# Altium footprint library HARWIN THD.PcbLib: 28 footprints (part 2 of 2)
Each footprint in its own frame and in the unit in brackets; x right, y up, seen from the top. Pads: shape width x height; smd on the part's side, far side on the other; paste and mask are expansions set on the pad; w line width, h text height; cw(c..) or ccw(c..) is an arc to the next point about the centre after c.
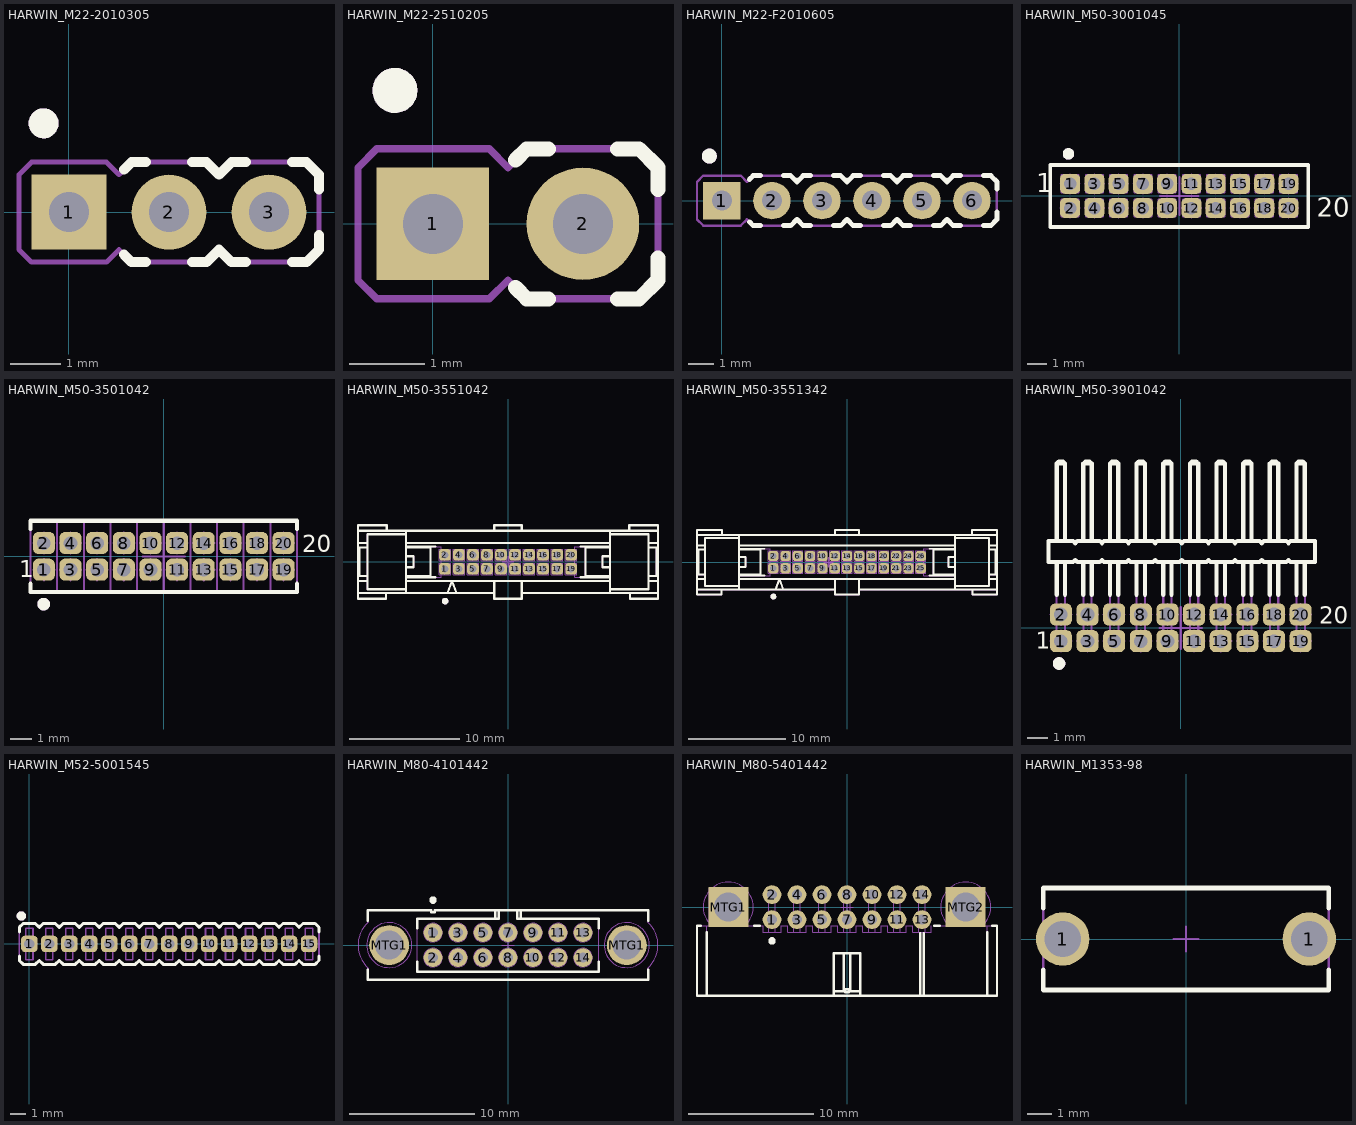
[diagram p1: the footprints below, top view; thin cyan lines are the x and y axes]

## HARWIN_M22-2010305 [mm] "3 Contacts - Pitch 2mm - Single Row Through Mount Straight Header (Post Lead = 3.5mm, Tail Lead 3.4mm, Insulator 1.5mm)"
height 5
pads (3):
  rect 1.5x1.5 hole 0.8: 1(0,0)
  round 1.5 hole 0.8: 2(2,0) 3(4,0)
Top Overlay:
  circle w0.3: c-0.508,1.778 r0.15
  lines w0.2: 1.1,-0.85 1.25,-1 1.542,-1 ; 1.1,0.85 1.25,1 1.542,1 ; 2.458,-1 2.75,-1 3,-0.75 3.25,-1 3.542,-1 ; 2.458,1 2.75,1 3,0.75 3.25,1 3.542,1 ; 4.458,-1 4.75,-1 5,-0.75 5,-0.458 ; 4.458,1 4.75,1 5,0.75 5,0.458
Mechanical 8:
  lines w0.1: -0.5,0 0,0 ; 0,-0.5 0,0 ; 0,0.5 0,0 ; 0.5,0 0,0 ; 1.5,0 2,0 ; 2,-0.5 2,0 ; 2,0.5 2,0 ; 2.5,0 2,0 ; 3.5,0 4,0 ; 4,-0.5 4,0 ; 4,0.5 4,0 ; 4.5,0 4,0
Mechanical 14:
  circle w0.3: c-0.508,1.778 r0.15
  lines w0.1: -0.097,0.097 -0.097,-0.098 ; -0.25,-0.25 -0.097,-0.098 ; -0.25,-0.25 0.25,-0.25 ; -0.25,-0.25 -0.25,0.25 ; -0.25,0.25 -0.097,0.098 0.098,0.098 ; -0.25,0.25 0.25,0.25 ; -0.097,-0.098 0.098,-0.098 ; 0.098,-0.098 0.098,0.098 ; 0.098,-0.098 0.25,-0.25 ; 0.098,0.098 0.25,0.25 ; 0.25,-0.25 0.25,0.25 ; 1.75,-0.25 1.903,-0.098 ; 1.75,-0.25 2.25,-0.25 ; 1.75,-0.25 1.75,0.25 ; 1.75,0.25 1.903,0.098 ; 1.75,0.25 2.25,0.25 ; 1.903,-0.098 2.098,-0.098 ; 1.903,-0.098 1.903,0.097 ; 1.903,0.098 2.098,0.098 ; 2.098,-0.098 2.098,0.098 ; 2.098,-0.098 2.25,-0.25 ; 2.098,0.098 2.25,0.25 ; 2.25,-0.25 2.25,0.25 ; 3.75,-0.25 3.75,0.25 ; 3.75,-0.25 4.25,-0.25 ; 3.75,-0.25 3.903,-0.098 ; 3.75,0.25 4.25,0.25 ; 3.75,0.25 3.903,0.098 ; 3.903,-0.098 3.903,0.097 ; 3.903,-0.098 4.098,-0.098 ; 3.903,0.098 4.098,0.098 ; 4.098,-0.098 4.25,-0.25 ; 4.098,-0.098 4.098,0.098 ; 4.098,0.098 4.25,0.25 ; 4.25,-0.25 4.25,0.25 ; -1,-0.75 -0.75,-1 0.75,-1 1,-0.75 1.25,-1 2.75,-1 3,-0.75 3.25,-1 4.75,-1 5,-0.75 5,0.75 4.75,1 3.25,1 3,0.75 2.75,1 1.25,1 1,0.75 0.75,1 -0.75,1 -1,0.75 -1,-0.75
3D body "HARWIN_M22-2010305.stp": height 5, standoff -3.4, extent -1,-1 5,1

## HARWIN_M22-2510205 [mm] "2 Contacts - Pitch 2mm - Single Row Through Mount Straight Header (Post Lead = 3.5mm, Tail Lead 2.3mm, Insulator 1.5mm)"
height 5
pads (2):
  rect 1.5x1.5 hole 0.8: 1(0,0)
  round 1.5 hole 0.8: 2(2,0)
Top Overlay:
  circle w0.3: c-0.508,1.778 r0.15
  lines w0.2: 1.1,-0.85 1.25,-1 1.542,-1 ; 1.1,0.85 1.25,1 1.542,1 ; 2.458,-1 2.75,-1 3,-0.75 3,-0.458 ; 2.458,1 2.75,1 3,0.75 3,0.458
Mechanical 8:
  lines w0.1: -0.5,0 0,0 ; 0,-0.5 0,0 ; 0,0.5 0,0 ; 0.5,0 0,0 ; 1.5,0 2,0 ; 2,-0.5 2,0 ; 2,0.5 2,0 ; 2.5,0 2,0
Mechanical 14:
  circle w0.3: c-0.508,1.778 r0.15
  lines w0.1: -0.097,0.097 -0.097,-0.098 ; -0.25,-0.25 -0.097,-0.098 ; -0.25,-0.25 0.25,-0.25 ; -0.25,-0.25 -0.25,0.25 ; -0.25,0.25 -0.097,0.098 0.098,0.098 ; -0.25,0.25 0.25,0.25 ; -0.097,-0.098 0.098,-0.098 ; 0.098,-0.098 0.098,0.098 ; 0.098,-0.098 0.25,-0.25 ; 0.098,0.098 0.25,0.25 ; 0.25,-0.25 0.25,0.25 ; 1.75,-0.25 1.903,-0.098 ; 1.75,-0.25 2.25,-0.25 ; 1.75,-0.25 1.75,0.25 ; 1.75,0.25 1.903,0.098 ; 1.75,0.25 2.25,0.25 ; 1.903,-0.098 2.098,-0.098 ; 1.903,-0.098 1.903,0.097 ; 1.903,0.098 2.098,0.098 ; 2.098,-0.098 2.098,0.098 ; 2.098,-0.098 2.25,-0.25 ; 2.098,0.098 2.25,0.25 ; 2.25,-0.25 2.25,0.25 ; -1,-0.75 -0.75,-1 0.75,-1 1,-0.75 1.25,-1 2.75,-1 3,-0.75 3,0.75 2.75,1 1.25,1 1,0.75 0.75,1 -0.75,1 -1,0.75 -1,-0.75
3D body "HARWIN_M22-2510205.stp": height 5, standoff -2.3, extent -1,-1 3,1

## HARWIN_M22-F2010605 [mm] "6 Contacts, Pitch 2mm - SIL Vertical Pin Header"
height 5
pads (6):
  rect 1.5x1.5 hole 0.8: 1(0,0)
  round 1.5 hole 0.8: 2(2,0) 3(4,0) 4(6,0) 5(8,0) 6(10,0)
Top Overlay:
  circle w0.3: c-0.508,1.778 r0.15
  lines w0.2: 1.1,-0.85 1.25,-1 1.542,-1 ; 1.1,0.85 1.25,1 1.542,1 ; 2.458,-1 2.75,-1 3,-0.75 3.25,-1 3.542,-1 ; 2.458,1 2.75,1 3,0.75 3.25,1 3.542,1 ; 4.458,-1 4.75,-1 5,-0.75 5.25,-1 5.542,-1 ; 4.458,1 4.75,1 5,0.75 5.25,1 5.542,1 ; 6.458,-1 6.75,-1 7,-0.75 7.25,-1 7.542,-1 ; 6.458,1 6.75,1 7,0.75 7.25,1 7.542,1 ; 8.458,-1 8.75,-1 9,-0.75 9.25,-1 9.542,-1 ; 8.458,1 8.75,1 9,0.75 9.25,1 9.542,1 ; 10.458,-1 10.75,-1 11,-0.75 11,-0.458 ; 10.458,1 10.75,1 11,0.75 11,0.458
Mechanical 8:
  lines w0.1: -0.5,0 0,0 ; 0,-0.5 0,0 ; 0,0.5 0,0 ; 0.5,0 0,0 ; 1.5,0 2,0 ; 2,-0.5 2,0 ; 2,0.5 2,0 ; 2.5,0 2,0 ; 3.5,0 4,0 ; 4,-0.5 4,0 ; 4,0.5 4,0 ; 4.5,0 4,0 ; 5.5,0 6,0 ; 6,-0.5 6,0 ; 6,0.5 6,0 ; 6.5,0 6,0 ; 7.5,0 8,0 ; 8,-0.5 8,0 ; 8,0.5 8,0 ; 8.5,0 8,0 ; 9.5,0 10,0 ; 10,-0.5 10,0 ; 10,0.5 10,0 ; 10.5,0 10,0
Mechanical 14:
  circle w0.3: c-0.508,1.778 r0.15
  lines w0.1: -1,-0.75 -0.75,-1 0.75,-1 1,-0.75 1.25,-1 2.75,-1 3,-0.75 3.25,-1 4.75,-1 5,-0.75 5.25,-1 6.75,-1 7,-0.75 7.25,-1 8.75,-1 9,-0.75 9.25,-1 10.75,-1 11,-0.75 11,0.75 10.75,1 9.25,1 9,0.75 8.75,1 7.25,1 7,0.75 6.75,1 5.25,1 5,0.75 4.75,1 3.25,1 3,0.75 2.75,1 1.25,1 1,0.75 0.75,1 -0.75,1 -1,0.75 -1,-0.75
3D body "HARWIN_M22-F2010605.stp": height 5, standoff -3.4, extent -1,-1 11,1

## HARWIN_M50-3001045 [mm] "20 Contacts, Pitch 1.27mm - Top Entry, Dual Row Through Mount Socket"
height 4.55
pads (20):
  rrect50% 1.05x1.05 hole 0.65: 1(-5.715,0.635) 2(-5.715,-0.635) 3(-4.445,0.635) 4(-4.445,-0.635) 5(-3.175,0.635) 6(-3.175,-0.635) 7(-1.905,0.635) 8(-1.905,-0.635) 9(-0.635,0.635) 10(-0.635,-0.635) 11(0.635,0.635) 12(0.635,-0.635) 13(1.905,0.635) 14(1.905,-0.635) 15(3.175,0.635) 16(3.175,-0.635) 17(4.445,0.635) 18(4.445,-0.635) 19(5.715,0.635) 20(5.715,-0.635)
Top Overlay:
  circle w0.3: c-5.8,2.2 r0.15
  lines w0.2: -6.75,-1.625 6.75,-1.625 6.75,1.625 -6.75,1.625 -6.75,-1.625
  text "20" at 7.2,-1.1 h1
  text "1" at -7.5,0.2 h1
Mechanical 8:
  lines w0.1: -6.215,-0.635 -5.715,-0.635 ; -6.215,0.635 -5.715,0.635 ; -5.715,-1.135 -5.715,-0.635 ; -5.715,-0.135 -5.715,-0.635 ; -5.715,0.135 -5.715,0.635 ; -5.715,1.135 -5.715,0.635 ; -5.215,-0.635 -5.715,-0.635 ; -5.215,0.635 -5.715,0.635 ; -4.945,-0.635 -4.445,-0.635 ; -4.945,0.635 -4.445,0.635 ; -4.445,-1.135 -4.445,-0.635 ; -4.445,-0.135 -4.445,-0.635 ; -4.445,0.135 -4.445,0.635 ; -4.445,1.135 -4.445,0.635 ; -3.945,-0.635 -4.445,-0.635 ; -3.945,0.635 -4.445,0.635 ; -3.675,-0.635 -3.175,-0.635 ; -3.675,0.635 -3.175,0.635 ; -3.175,-1.135 -3.175,-0.635 ; -3.175,-0.135 -3.175,-0.635 ; -3.175,0.135 -3.175,0.635 ; -3.175,1.135 -3.175,0.635 ; -2.675,-0.635 -3.175,-0.635 ; -2.675,0.635 -3.175,0.635 ; -2.405,-0.635 -1.905,-0.635 ; -2.405,0.635 -1.905,0.635 ; -1.905,-1.135 -1.905,-0.635 ; -1.905,-0.135 -1.905,-0.635 ; -1.905,0.135 -1.905,0.635 ; -1.905,1.135 -1.905,0.635 ; -1.405,-0.635 -1.905,-0.635 ; -1.405,0.635 -1.905,0.635 ; -1.135,-0.635 -0.635,-0.635 ; -1.135,0.635 -0.635,0.635 ; -1,0 0,0 ; -0.635,-1.135 -0.635,-0.635 ; -0.635,-0.135 -0.635,-0.635 ; -0.635,0.135 -0.635,0.635 ; -0.635,1.135 -0.635,0.635 ; -0.135,-0.635 -0.635,-0.635 ; -0.135,0.635 -0.635,0.635 ; 0,-1 0,0 ; 0,1 0,0 ; 0.135,-0.635 0.635,-0.635 ; 0.135,0.635 0.635,0.635 ; 0.635,-1.135 0.635,-0.635 ; 0.635,-0.135 0.635,-0.635 ; 0.635,0.135 0.635,0.635 ; 0.635,1.135 0.635,0.635 ; 1,0 0,0 ; 1.135,-0.635 0.635,-0.635 ; 1.135,0.635 0.635,0.635 ; 1.405,-0.635 1.905,-0.635 ; 1.405,0.635 1.905,0.635 ; 1.905,-1.135 1.905,-0.635 ; 1.905,-0.135 1.905,-0.635 ; 1.905,0.135 1.905,0.635 ; 1.905,1.135 1.905,0.635 ; 2.405,-0.635 1.905,-0.635 ; 2.405,0.635 1.905,0.635 ; 2.675,-0.635 3.175,-0.635 ; 2.675,0.635 3.175,0.635 ; 3.175,-1.135 3.175,-0.635 ; 3.175,-0.135 3.175,-0.635 ; 3.175,0.135 3.175,0.635 ; 3.175,1.135 3.175,0.635 ; 3.675,-0.635 3.175,-0.635 ; 3.675,0.635 3.175,0.635 ; 3.945,-0.635 4.445,-0.635 ; 3.945,0.635 4.445,0.635 ; 4.445,-1.135 4.445,-0.635 ; 4.445,-0.135 4.445,-0.635 ; 4.445,0.135 4.445,0.635 ; 4.445,1.135 4.445,0.635 ; 4.945,-0.635 4.445,-0.635 ; 4.945,0.635 4.445,0.635 ; 5.215,-0.635 5.715,-0.635 ; 5.215,0.635 5.715,0.635 ; 5.715,-1.135 5.715,-0.635 ; 5.715,-0.135 5.715,-0.635 ; 5.715,0.135 5.715,0.635 ; 5.715,1.135 5.715,0.635 ; 6.215,-0.635 5.715,-0.635 ; 6.215,0.635 5.715,0.635
Mechanical 14:
  drawing of 245 lines, arcs and shapes, not listed
  text "20" at 7.2,-1.1 h1
  text "1" at -7.5,0.2 h1
3D body "HARWIN_M50-3001045.stp": height 4.55, standoff -2.4, extent -6.75,-1.625 6.75,1.625

## HARWIN_M50-3501042 [mm] "20 Contacts, Pitch 1.27mm - Horizontal, Dual Row Through Mount Right Angle Straight Header"
height 4.15
pads (20):
  rrect50% 1.05x1.05 hole 0.65: 1(-5.715,-0.635) 2(-5.715,0.635) 3(-4.445,-0.635) 4(-4.445,0.635) 5(-3.175,-0.635) 6(-3.175,0.635) 7(-1.905,-0.635) 8(-1.905,0.635) 9(-0.635,-0.635) 10(-0.635,0.635) 11(0.635,-0.635) 12(0.635,0.635) 13(1.905,-0.635) 14(1.905,0.635) 15(3.175,-0.635) 16(3.175,0.635) 17(4.445,-0.635) 18(4.445,0.635) 19(5.715,-0.635) 20(5.715,0.635)
Top Overlay:
  circle w0.3: c-5.725,-2.275 r0.15
  lines w0.2: -6.35,-1.308 -6.35,-1.7 6.35,-1.7 6.35,-1.308 ; -6.35,1.308 -6.35,1.7 6.35,1.7 6.35,1.308
  text "20" at 6.6,0.2 h0.8
  text "1" at -6.9,-1 h0.8
Mechanical 8:
  lines w0.1: -6.215,-0.635 -5.715,-0.635 ; -6.215,0.635 -5.715,0.635 ; -5.715,-1.135 -5.715,-0.635 ; -5.715,-0.135 -5.715,-0.635 ; -5.715,0.135 -5.715,0.635 ; -5.715,1.135 -5.715,0.635 ; -5.215,-0.635 -5.715,-0.635 ; -5.215,0.635 -5.715,0.635 ; -4.945,-0.635 -4.445,-0.635 ; -4.945,0.635 -4.445,0.635 ; -4.445,-1.135 -4.445,-0.635 ; -4.445,-0.135 -4.445,-0.635 ; -4.445,0.135 -4.445,0.635 ; -4.445,1.135 -4.445,0.635 ; -3.945,-0.635 -4.445,-0.635 ; -3.945,0.635 -4.445,0.635 ; -3.675,-0.635 -3.175,-0.635 ; -3.675,0.635 -3.175,0.635 ; -3.175,-1.135 -3.175,-0.635 ; -3.175,-0.135 -3.175,-0.635 ; -3.175,0.135 -3.175,0.635 ; -3.175,1.135 -3.175,0.635 ; -2.675,-0.635 -3.175,-0.635 ; -2.675,0.635 -3.175,0.635 ; -2.405,-0.635 -1.905,-0.635 ; -2.405,0.635 -1.905,0.635 ; -1.905,-1.135 -1.905,-0.635 ; -1.905,-0.135 -1.905,-0.635 ; -1.905,0.135 -1.905,0.635 ; -1.905,1.135 -1.905,0.635 ; -1.405,-0.635 -1.905,-0.635 ; -1.405,0.635 -1.905,0.635 ; -1.135,-0.635 -0.635,-0.635 ; -1.135,0.635 -0.635,0.635 ; -1,0 0,0 ; -0.635,-1.135 -0.635,-0.635 ; -0.635,-0.135 -0.635,-0.635 ; -0.635,0.135 -0.635,0.635 ; -0.635,1.135 -0.635,0.635 ; -0.135,-0.635 -0.635,-0.635 ; -0.135,0.635 -0.635,0.635 ; 0,-1 0,0 ; 0,1 0,0 ; 0.135,-0.635 0.635,-0.635 ; 0.135,0.635 0.635,0.635 ; 0.635,-1.135 0.635,-0.635 ; 0.635,-0.135 0.635,-0.635 ; 0.635,0.135 0.635,0.635 ; 0.635,1.135 0.635,0.635 ; 1,0 0,0 ; 1.135,-0.635 0.635,-0.635 ; 1.135,0.635 0.635,0.635 ; 1.405,-0.635 1.905,-0.635 ; 1.405,0.635 1.905,0.635 ; 1.905,-1.135 1.905,-0.635 ; 1.905,-0.135 1.905,-0.635 ; 1.905,0.135 1.905,0.635 ; 1.905,1.135 1.905,0.635 ; 2.405,-0.635 1.905,-0.635 ; 2.405,0.635 1.905,0.635 ; 2.675,-0.635 3.175,-0.635 ; 2.675,0.635 3.175,0.635 ; 3.175,-1.135 3.175,-0.635 ; 3.175,-0.135 3.175,-0.635 ; 3.175,0.135 3.175,0.635 ; 3.175,1.135 3.175,0.635 ; 3.675,-0.635 3.175,-0.635 ; 3.675,0.635 3.175,0.635 ; 3.945,-0.635 4.445,-0.635 ; 3.945,0.635 4.445,0.635 ; 4.445,-1.135 4.445,-0.635 ; 4.445,-0.135 4.445,-0.635 ; 4.445,0.135 4.445,0.635 ; 4.445,1.135 4.445,0.635 ; 4.945,-0.635 4.445,-0.635 ; 4.945,0.635 4.445,0.635 ; 5.215,-0.635 5.715,-0.635 ; 5.215,0.635 5.715,0.635 ; 5.715,-1.135 5.715,-0.635 ; 5.715,-0.135 5.715,-0.635 ; 5.715,0.135 5.715,0.635 ; 5.715,1.135 5.715,0.635 ; 6.215,-0.635 5.715,-0.635 ; 6.215,0.635 5.715,0.635
Mechanical 14:
  drawing of 254 lines, arcs and shapes, not listed
  text "20" at 6.6,0.2 h0.8
  text "1" at -6.9,-1 h0.8
3D body "HARWIN_M50-3501042.stp": height 4, standoff -2.3, extent -6.35,-1.7 6.35,1.7

## HARWIN_M50-3551042 [mm] "20 Contacts - Pitch 1.27mm - Vertical Latching, Dual Row Through Mount Straight Header"
height 11.6
pads (20):
  rrect50% 1.05x1.05 hole 0.65: 1(-5.715,-0.635) 2(-5.715,0.635) 3(-4.445,-0.635) 4(-4.445,0.635) 5(-3.175,-0.635) 6(-3.175,0.635) 7(-1.905,-0.635) 8(-1.905,0.635) 9(-0.635,-0.635) 10(-0.635,0.635) 11(0.635,-0.635) 12(0.635,0.635) 13(1.905,-0.635) 14(1.905,0.635) 15(3.175,-0.635) 16(3.175,0.635) 17(4.445,-0.635) 18(4.445,0.635) 19(5.715,-0.635) 20(5.715,0.635)
Top Overlay:
  circle w0.3: c-5.7,-3.55 r0.15
  lines w0.2: -13.59,-2.825 -1.25,-2.825 ; -13.59,2.825 13.59,2.825 ; -13.586,-1.725 -12.742,-1.725 ; -13.586,1.725 -12.742,1.725 ; -12.742,-1.285 -13.451,-1.285 -13.451,1.315 -12.742,1.315 ; -11.05,-2.825 -11.05,-3.345 -13.59,-3.345 -13.59,3.325 -10.99,3.325 -10.99,2.825 ; -9.248,-1.285 -7.015,-1.285 -7.015,1.315 -9.248,1.315 ; -9.248,-0.485 -8.559,-0.485 -8.559,0.515 -9.248,0.515 ; -9.235,-2.825 -9.235,-1.385 -6.59,-1.385 ; -9.235,-1.725 9.235,-1.725 ; -9.235,1.725 9.235,1.725 ; -6.59,1.385 -9.235,1.385 -9.235,2.825 9.235,2.825 9.235,1.385 6.59,1.385 ; -5.478,-2.825 -5.078,-1.725 -4.678,-2.825 ; -1.25,-1.725 -1.25,-3.345 1.25,-3.345 1.25,-1.725 ; -1.25,2.825 -1.25,3.325 1.25,3.325 1.25,2.825 ; 1.25,-2.825 13.59,-2.825 ; 6.59,-1.385 9.235,-1.385 9.235,-2.825 ; 9.248,-1.285 7.015,-1.285 7.015,1.315 9.248,1.315 ; 9.248,-0.485 8.559,-0.485 8.559,0.515 9.248,0.515 ; 10.99,2.825 10.99,3.325 13.59,3.325 13.59,-3.345 11.05,-3.345 11.05,-2.825 ; 12.742,-1.725 13.586,-1.725 ; 12.742,-1.285 13.451,-1.285 13.451,1.315 12.742,1.315 ; 12.742,1.725 13.586,1.725 ; -12.742,-2.47 -9.248,-2.47 -9.248,2.5 -12.742,2.5 -12.742,-2.47 ; 9.248,-2.47 12.742,-2.47 12.742,2.5 9.248,2.5 9.248,-2.47
Mechanical 8:
  drawing of 184 lines, arcs and shapes, not listed
Mechanical 14:
  circle w0.3: c-5.7,-3.55 r0.15
  lines w0.1: -13.59,-2.825 -1.25,-2.825 ; -13.59,2.825 13.59,2.825 ; -13.586,-1.725 -12.742,-1.725 ; -13.586,1.725 -12.742,1.725 ; -12.742,-1.285 -13.451,-1.285 -13.451,1.315 -12.742,1.315 ; -11.05,-2.825 -11.05,-3.345 -13.59,-3.345 -13.59,3.325 -10.99,3.325 -10.99,2.825 ; -9.248,-1.285 -7.015,-1.285 -7.015,1.315 -9.248,1.315 ; -9.248,-0.485 -8.559,-0.485 -8.559,0.515 -9.248,0.515 ; -9.235,-2.825 -9.235,-1.385 -6.04,-1.385 -6.04,1.385 -9.235,1.385 -9.235,2.825 9.235,2.825 9.235,1.385 6.04,1.385 6.04,-1.385 9.235,-1.385 9.235,-2.825 ; -9.235,-1.725 9.235,-1.725 ; -9.235,1.725 9.235,1.725 ; -5.478,-2.825 -5.078,-1.725 -4.678,-2.825 ; -1.25,-1.725 -1.25,-3.345 1.25,-3.345 1.25,-1.725 ; -1.25,2.825 -1.25,3.325 1.25,3.325 1.25,2.825 ; 1.25,-2.825 13.59,-2.825 ; 9.248,-1.285 7.015,-1.285 7.015,1.315 9.248,1.315 ; 9.248,-0.485 8.559,-0.485 8.559,0.515 9.248,0.515 ; 10.99,2.825 10.99,3.325 13.59,3.325 13.59,-3.345 11.05,-3.345 11.05,-2.825 ; 12.742,-1.725 13.586,-1.725 ; 12.742,-1.285 13.451,-1.285 13.451,1.315 12.742,1.315 ; 12.742,1.725 13.586,1.725 ; -12.742,-2.47 -9.248,-2.47 -9.248,2.5 -12.742,2.5 -12.742,-2.47 ; -5.915,-0.835 -5.515,-0.835 -5.515,-0.435 -5.915,-0.435 -5.915,-0.835 ; -5.915,0.435 -5.515,0.435 -5.515,0.835 -5.915,0.835 -5.915,0.435 ; -4.645,-0.835 -4.245,-0.835 -4.245,-0.435 -4.645,-0.435 -4.645,-0.835 ; -4.645,0.435 -4.245,0.435 -4.245,0.835 -4.645,0.835 -4.645,0.435 ; -3.375,-0.835 -2.975,-0.835 -2.975,-0.435 -3.375,-0.435 -3.375,-0.835 ; -3.375,0.435 -2.975,0.435 -2.975,0.835 -3.375,0.835 -3.375,0.435 ; -2.105,-0.835 -1.705,-0.835 -1.705,-0.435 -2.105,-0.435 -2.105,-0.835 ; -2.105,0.435 -1.705,0.435 -1.705,0.835 -2.105,0.835 -2.105,0.435 ; -0.835,-0.835 -0.435,-0.835 -0.435,-0.435 -0.835,-0.435 -0.835,-0.835 ; -0.835,0.435 -0.435,0.435 -0.435,0.835 -0.835,0.835 -0.835,0.435 ; 0.435,-0.835 0.835,-0.835 0.835,-0.435 0.435,-0.435 0.435,-0.835 ; 0.435,0.435 0.835,0.435 0.835,0.835 0.435,0.835 0.435,0.435 ; 1.705,-0.835 2.105,-0.835 2.105,-0.435 1.705,-0.435 1.705,-0.835 ; 1.705,0.435 2.105,0.435 2.105,0.835 1.705,0.835 1.705,0.435 ; 2.975,-0.835 3.375,-0.835 3.375,-0.435 2.975,-0.435 2.975,-0.835 ; 2.975,0.435 3.375,0.435 3.375,0.835 2.975,0.835 2.975,0.435 ; 4.245,-0.835 4.645,-0.835 4.645,-0.435 4.245,-0.435 4.245,-0.835 ; 4.245,0.435 4.645,0.435 4.645,0.835 4.245,0.835 4.245,0.435 ; 5.515,-0.835 5.915,-0.835 5.915,-0.435 5.515,-0.435 5.515,-0.835 ; 5.515,0.435 5.915,0.435 5.915,0.835 5.515,0.835 5.515,0.435 ; 9.248,-2.47 12.742,-2.47 12.742,2.5 9.248,2.5 9.248,-2.47
3D body "HARWIN_M50-3551042.stp": height 11.3, standoff -2.72, extent -13.59,-3.345 13.59,3.325

## HARWIN_M50-3551342 [mm] "26 Contacts - Pitch 1.27mm - Vertical Latching, Dual Row Through Mount Straight Header"
height 11.6
pads (26):
  rrect50% 1.05x1.05 hole 0.65: 1(-7.62,-0.635) 2(-7.62,0.635) 3(-6.35,-0.635) 4(-6.35,0.635) 5(-5.08,-0.635) 6(-5.08,0.635) 7(-3.81,-0.635) 8(-3.81,0.635) 9(-2.54,-0.635) 10(-2.54,0.635) 11(-1.27,-0.635) 12(-1.27,0.635) 13(0,-0.635) 14(0,0.635) 15(1.27,-0.635) 16(1.27,0.635) 17(2.54,-0.635) 18(2.54,0.635) 19(3.81,-0.635) 20(3.81,0.635) 21(5.08,-0.635) 22(5.08,0.635) 23(6.35,-0.635) 24(6.35,0.635) 25(7.62,-0.635) 26(7.62,0.635)
Top Overlay:
  circle w0.3: c-7.605,-3.55 r0.15
  lines w0.2: -15.495,-2.825 -1.25,-2.825 ; -15.495,2.825 15.495,2.825 ; -15.491,-1.725 -14.647,-1.725 ; -15.491,1.725 -14.647,1.725 ; -14.647,-1.285 -15.356,-1.285 -15.356,1.315 -14.647,1.315 ; -12.955,-2.825 -12.955,-3.345 -15.495,-3.345 -15.495,3.325 -12.895,3.325 -12.895,2.825 ; -11.153,-1.285 -8.92,-1.285 -8.92,1.315 -11.153,1.315 ; -11.153,-0.485 -10.464,-0.485 -10.464,0.515 -11.153,0.515 ; -11.14,-2.825 -11.14,-1.385 -8.495,-1.385 ; -11.14,-1.725 11.14,-1.725 ; -11.14,1.725 11.14,1.725 ; -11.14,2.825 -11.14,1.385 -8.495,1.385 ; -9.235,2.825 9.235,2.825 ; -7.383,-2.825 -6.983,-1.725 -6.583,-2.825 ; -1.25,-1.725 -1.25,-3.345 1.25,-3.345 1.25,-1.725 ; -1.25,2.825 -1.25,3.325 1.25,3.325 1.25,2.825 ; 1.25,-2.825 15.495,-2.825 ; 8.495,-1.385 11.14,-1.385 11.14,-2.825 ; 8.495,1.385 11.14,1.385 11.14,2.825 ; 11.153,-1.285 8.92,-1.285 8.92,1.315 11.153,1.315 ; 11.153,-0.485 10.464,-0.485 10.464,0.515 11.153,0.515 ; 12.895,2.825 12.895,3.325 15.495,3.325 15.495,-3.345 12.955,-3.345 12.955,-2.825 ; 14.647,-1.725 15.491,-1.725 ; 14.647,-1.285 15.356,-1.285 15.356,1.315 14.647,1.315 ; 14.647,1.725 15.491,1.725 ; -14.647,-2.47 -14.647,2.5 -11.153,2.5 -11.153,-2.47 -14.647,-2.47 ; 11.153,-2.47 11.153,2.5 14.647,2.5 14.647,-2.47 11.153,-2.47
Mechanical 8:
  drawing of 238 lines, arcs and shapes, not listed
Mechanical 14:
  drawing of 169 lines, arcs and shapes, not listed
3D body "HARWIN_M50-3551342.stp": height 11.3, standoff -2.72, extent -15.495,-3.345 15.495,3.325

## HARWIN_M50-3901042 [mm] "20 Contacts, Pitch 1.27mm - Horizontal, Dual Row Through Mount Right Angle Header"
height 3.41
pads (20):
  rrect50% 1.05x1.05 hole 0.65: 1(-5.715,-0.635) 2(-5.715,0.635) 3(-4.445,-0.635) 4(-4.445,0.635) 5(-3.175,-0.635) 6(-3.175,0.635) 7(-1.905,-0.635) 8(-1.905,0.635) 9(-0.635,-0.635) 10(-0.635,0.635) 11(0.635,-0.635) 12(0.635,0.635) 13(1.905,-0.635) 14(1.905,0.635) 15(3.175,-0.635) 16(3.175,0.635) 17(4.445,-0.635) 18(4.445,0.635) 19(5.715,-0.635) 20(5.715,0.635)
Top Overlay:
  circle w0.3: c-5.8,-1.7 r0.15
  lines w0.2: -5.915,1.575 -5.915,3.135 ; -5.915,4.135 -5.915,7.835 ; -5.515,1.575 -5.515,3.135 ; -5.515,4.135 -5.515,7.835 ; -4.645,1.575 -4.645,3.135 ; -4.645,4.135 -4.645,7.835 ; -4.245,1.575 -4.245,3.135 ; -4.245,4.135 -4.245,7.835 ; -3.375,1.575 -3.375,3.135 ; -3.375,4.135 -3.375,7.835 ; -2.975,1.575 -2.975,3.135 ; -2.975,4.135 -2.975,7.835 ; -2.105,1.575 -2.105,3.135 ; -2.105,4.135 -2.105,7.835 ; -1.705,1.575 -1.705,3.135 ; -1.705,4.135 -1.705,7.835 ; -0.835,1.575 -0.835,3.135 ; -0.835,4.135 -0.835,7.835 ; -0.435,1.575 -0.435,3.135 ; -0.435,4.135 -0.435,7.835 ; 0.435,1.575 0.435,3.135 ; 0.435,4.135 0.435,7.835 ; 0.835,1.575 0.835,3.135 ; 0.835,4.135 0.835,7.835 ; 1.705,1.575 1.705,3.135 ; 1.705,4.135 1.705,7.835 ; 2.105,1.575 2.105,3.135 ; 2.105,4.135 2.105,7.835 ; 2.975,1.575 2.975,3.135 ; 2.975,4.135 2.975,7.835 ; 3.375,1.575 3.375,3.135 ; 3.375,4.135 3.375,7.835 ; 4.245,1.575 4.245,3.135 ; 4.245,4.135 4.245,7.835 ; 4.645,1.575 4.645,3.135 ; 4.645,4.135 4.645,7.835 ; 5.515,1.575 5.515,3.135 ; 5.515,4.135 5.515,7.835 ; 5.915,1.575 5.915,3.135 ; 5.915,4.135 5.915,7.835 ; -6.3,3.135 -6.3,4.135 ; -6.3,3.135 -6.3,4.135 ; -6.3,3.135 -5.13,3.135 -5.03,3.235 -4.93,3.135 -3.86,3.135 -3.76,3.235 -3.66,3.135 -2.59,3.135 -2.49,3.235 -2.39,3.135 -1.32,3.135 -1.22,3.235 -1.12,3.135 -0.05,3.135 0.05,3.235 0.15,3.135 1.22,3.135 1.32,3.235 1.42,3.135 2.49,3.135 2.59,3.235 2.69,3.135 3.76,3.135 3.86,3.235 3.96,3.135 5.03,3.135 5.13,3.235 5.23,3.135 6.4,3.135 6.4,4.135 5.23,4.135 5.13,4.035 5.03,4.135 3.96,4.135 3.86,4.035 3.76,4.135 2.69,4.135 2.59,4.035 2.49,4.135 1.42,4.135 1.32,4.035 1.22,4.135 0.15,4.135 0.05,4.035 -0.05,4.135 -1.12,4.135 -1.22,4.035 -1.32,4.135 -2.39,4.135 -2.49,4.035 -2.59,4.135 -3.66,4.135 -3.76,4.035 -3.86,4.135 -4.93,4.135 -5.03,4.035 -5.13,4.135 -6.3,4.135 ; -5.915,7.835 -5.815,7.935 -5.615,7.935 -5.515,7.835 ; -5.915,7.835 -5.515,7.835 ; -4.645,7.835 -4.545,7.935 -4.345,7.935 -4.245,7.835 ; -4.645,7.835 -4.245,7.835 ; -3.375,7.835 -3.275,7.935 -3.075,7.935 -2.975,7.835 ; -3.375,7.835 -2.975,7.835 ; -2.105,7.835 -2.005,7.935 -1.805,7.935 -1.705,7.835 ; -2.105,7.835 -1.705,7.835 ; -0.835,7.835 -0.735,7.935 -0.535,7.935 -0.435,7.835 ; -0.835,7.835 -0.435,7.835 ; 0.435,7.835 0.535,7.935 0.735,7.935 0.835,7.835 ; 0.435,7.835 0.835,7.835 ; 1.705,7.835 1.805,7.935 2.005,7.935 2.105,7.835 ; 1.705,7.835 2.105,7.835 ; 2.975,7.835 3.075,7.935 3.275,7.935 3.375,7.835 ; 2.975,7.835 3.375,7.835 ; 4.245,7.835 4.345,7.935 4.545,7.935 4.645,7.835 ; 4.245,7.835 4.645,7.835 ; 5.515,7.835 5.615,7.935 5.815,7.935 5.915,7.835 ; 5.515,7.835 5.915,7.835
  text "20" at 6.6,0.2 h0.8
  text "1" at -6.9,-1 h0.8
Mechanical 8:
  lines w0.1: -6.215,-0.635 -5.715,-0.635 ; -6.215,0.635 -5.715,0.635 ; -5.715,-1.135 -5.715,-0.635 ; -5.715,-0.135 -5.715,-0.635 ; -5.715,0.135 -5.715,0.635 ; -5.715,1.135 -5.715,0.635 ; -5.215,-0.635 -5.715,-0.635 ; -5.215,0.635 -5.715,0.635 ; -4.945,-0.635 -4.445,-0.635 ; -4.945,0.635 -4.445,0.635 ; -4.445,-1.135 -4.445,-0.635 ; -4.445,-0.135 -4.445,-0.635 ; -4.445,0.135 -4.445,0.635 ; -4.445,1.135 -4.445,0.635 ; -3.945,-0.635 -4.445,-0.635 ; -3.945,0.635 -4.445,0.635 ; -3.675,-0.635 -3.175,-0.635 ; -3.675,0.635 -3.175,0.635 ; -3.175,-1.135 -3.175,-0.635 ; -3.175,-0.135 -3.175,-0.635 ; -3.175,0.135 -3.175,0.635 ; -3.175,1.135 -3.175,0.635 ; -2.675,-0.635 -3.175,-0.635 ; -2.675,0.635 -3.175,0.635 ; -2.405,-0.635 -1.905,-0.635 ; -2.405,0.635 -1.905,0.635 ; -1.905,-1.135 -1.905,-0.635 ; -1.905,-0.135 -1.905,-0.635 ; -1.905,0.135 -1.905,0.635 ; -1.905,1.135 -1.905,0.635 ; -1.405,-0.635 -1.905,-0.635 ; -1.405,0.635 -1.905,0.635 ; -1.135,-0.635 -0.635,-0.635 ; -1.135,0.635 -0.635,0.635 ; -1,0 0,0 ; -0.635,-1.135 -0.635,-0.635 ; -0.635,-0.135 -0.635,-0.635 ; -0.635,0.135 -0.635,0.635 ; -0.635,1.135 -0.635,0.635 ; -0.135,-0.635 -0.635,-0.635 ; -0.135,0.635 -0.635,0.635 ; 0,-1 0,0 ; 0,1 0,0 ; 0.135,-0.635 0.635,-0.635 ; 0.135,0.635 0.635,0.635 ; 0.635,-1.135 0.635,-0.635 ; 0.635,-0.135 0.635,-0.635 ; 0.635,0.135 0.635,0.635 ; 0.635,1.135 0.635,0.635 ; 1,0 0,0 ; 1.135,-0.635 0.635,-0.635 ; 1.135,0.635 0.635,0.635 ; 1.405,-0.635 1.905,-0.635 ; 1.405,0.635 1.905,0.635 ; 1.905,-1.135 1.905,-0.635 ; 1.905,-0.135 1.905,-0.635 ; 1.905,0.135 1.905,0.635 ; 1.905,1.135 1.905,0.635 ; 2.405,-0.635 1.905,-0.635 ; 2.405,0.635 1.905,0.635 ; 2.675,-0.635 3.175,-0.635 ; 2.675,0.635 3.175,0.635 ; 3.175,-1.135 3.175,-0.635 ; 3.175,-0.135 3.175,-0.635 ; 3.175,0.135 3.175,0.635 ; 3.175,1.135 3.175,0.635 ; 3.675,-0.635 3.175,-0.635 ; 3.675,0.635 3.175,0.635 ; 3.945,-0.635 4.445,-0.635 ; 3.945,0.635 4.445,0.635 ; 4.445,-1.135 4.445,-0.635 ; 4.445,-0.135 4.445,-0.635 ; 4.445,0.135 4.445,0.635 ; 4.445,1.135 4.445,0.635 ; 4.945,-0.635 4.445,-0.635 ; 4.945,0.635 4.445,0.635 ; 5.215,-0.635 5.715,-0.635 ; 5.215,0.635 5.715,0.635 ; 5.715,-1.135 5.715,-0.635 ; 5.715,-0.135 5.715,-0.635 ; 5.715,0.135 5.715,0.635 ; 5.715,1.135 5.715,0.635 ; 6.215,-0.635 5.715,-0.635 ; 6.215,0.635 5.715,0.635
Mechanical 14:
  circle w0.3: c-5.8,-1.7 r0.15
  lines w0.1: -5.915,3.135 -5.915,-0.835 -5.515,-0.835 -5.515,3.135 ; -5.915,4.135 -5.915,7.835 ; -5.515,4.135 -5.515,7.835 ; -4.645,3.135 -4.645,-0.835 -4.245,-0.835 -4.245,3.135 ; -4.645,4.135 -4.645,7.835 ; -4.245,4.135 -4.245,7.835 ; -3.375,3.135 -3.375,-0.835 -2.975,-0.835 -2.975,3.135 ; -3.375,4.135 -3.375,7.835 ; -2.975,4.135 -2.975,7.835 ; -2.105,3.135 -2.105,-0.835 -1.705,-0.835 -1.705,3.135 ; -2.105,4.135 -2.105,7.835 ; -1.705,4.135 -1.705,7.835 ; -0.835,3.135 -0.835,-0.835 -0.435,-0.835 -0.435,3.135 ; -0.835,4.135 -0.835,7.835 ; -0.435,4.135 -0.435,7.835 ; 0.435,3.135 0.435,-0.835 0.835,-0.835 0.835,3.135 ; 0.435,4.135 0.435,7.835 ; 0.835,4.135 0.835,7.835 ; 1.705,3.135 1.705,-0.835 2.105,-0.835 2.105,3.135 ; 1.705,4.135 1.705,7.835 ; 2.105,4.135 2.105,7.835 ; 2.975,3.135 2.975,-0.835 3.375,-0.835 3.375,3.135 ; 2.975,4.135 2.975,7.835 ; 3.375,4.135 3.375,7.835 ; 4.245,3.135 4.245,-0.835 4.645,-0.835 4.645,3.135 ; 4.245,4.135 4.245,7.835 ; 4.645,4.135 4.645,7.835 ; 5.515,3.135 5.515,-0.835 5.915,-0.835 5.915,3.135 ; 5.515,4.135 5.515,7.835 ; 5.915,4.135 5.915,7.835 ; -6.3,3.135 -6.3,4.135 ; -6.3,3.135 -5.13,3.135 -5.03,3.235 -4.93,3.135 -3.86,3.135 -3.76,3.235 -3.66,3.135 -2.59,3.135 -2.49,3.235 -2.39,3.135 -1.32,3.135 -1.22,3.235 -1.12,3.135 -0.05,3.135 0.05,3.235 0.15,3.135 1.22,3.135 1.32,3.235 1.42,3.135 2.49,3.135 2.59,3.235 2.69,3.135 3.76,3.135 3.86,3.235 3.96,3.135 5.03,3.135 5.13,3.235 5.23,3.135 6.4,3.135 6.4,4.135 5.23,4.135 5.13,4.035 5.03,4.135 3.96,4.135 3.86,4.035 3.76,4.135 2.69,4.135 2.59,4.035 2.49,4.135 1.42,4.135 1.32,4.035 1.22,4.135 0.15,4.135 0.05,4.035 -0.05,4.135 -1.12,4.135 -1.22,4.035 -1.32,4.135 -2.39,4.135 -2.49,4.035 -2.59,4.135 -3.66,4.135 -3.76,4.035 -3.86,4.135 -4.93,4.135 -5.03,4.035 -5.13,4.135 -6.3,4.135 ; -6.3,3.135 -6.3,4.135 ; -5.915,7.835 -5.815,7.935 -5.615,7.935 -5.515,7.835 ; -5.915,7.835 -5.515,7.835 ; -4.645,7.835 -4.545,7.935 -4.345,7.935 -4.245,7.835 ; -4.645,7.835 -4.245,7.835 ; -3.375,7.835 -3.275,7.935 -3.075,7.935 -2.975,7.835 ; -3.375,7.835 -2.975,7.835 ; -2.105,7.835 -2.005,7.935 -1.805,7.935 -1.705,7.835 ; -2.105,7.835 -1.705,7.835 ; -0.835,7.835 -0.735,7.935 -0.535,7.935 -0.435,7.835 ; -0.835,7.835 -0.435,7.835 ; 0.435,7.835 0.535,7.935 0.735,7.935 0.835,7.835 ; 0.435,7.835 0.835,7.835 ; 1.705,7.835 1.805,7.935 2.005,7.935 2.105,7.835 ; 1.705,7.835 2.105,7.835 ; 2.975,7.835 3.075,7.935 3.275,7.935 3.375,7.835 ; 2.975,7.835 3.375,7.835 ; 4.245,7.835 4.345,7.935 4.545,7.935 4.645,7.835 ; 4.245,7.835 4.645,7.835 ; 5.515,7.835 5.615,7.935 5.815,7.935 5.915,7.835 ; 5.515,7.835 5.915,7.835
  text "20" at 6.6,0.2 h0.8
  text "1" at -6.9,-1 h0.8
3D body "HARWIN_M50-3901042.stp": height 3.41, standoff -2, extent -6.3,-0.835 6.4,7.935

## HARWIN_M52-5001545 [mm] "1.27mm Pitch SIL Vertical PC Tail Socket"
height 4.8
pads (15):
  rrect50% 1.05x1.05 hole 0.65: 1(0,0) 2(1.27,0) 3(2.54,0) 4(3.81,0) 5(5.08,0) 6(6.35,0) 7(7.62,0) 8(8.89,0) 9(10.16,0) 10(11.43,0) 11(12.7,0) 12(13.97,0) 13(15.24,0) 14(16.51,0) 15(17.78,0)
Top Overlay:
  circle w0.3: c-0.508,1.778 r0.15
  lines w0.2: -0.635,-0.773 -0.635,-1.05 -0.385,-1.3 0.385,-1.3 0.635,-1.05 0.885,-1.3 1.655,-1.3 1.905,-1.05 2.155,-1.3 2.925,-1.3 3.175,-1.05 3.425,-1.3 4.195,-1.3 4.445,-1.05 4.695,-1.3 5.465,-1.3 5.715,-1.05 5.965,-1.3 6.735,-1.3 6.985,-1.05 7.235,-1.3 8.005,-1.3 8.255,-1.05 8.505,-1.3 9.275,-1.3 9.525,-1.05 9.775,-1.3 10.545,-1.3 10.795,-1.05 11.045,-1.3 11.815,-1.3 12.065,-1.05 12.315,-1.3 13.085,-1.3 13.335,-1.05 13.585,-1.3 14.355,-1.3 14.605,-1.05 14.855,-1.3 15.625,-1.3 15.875,-1.05 16.125,-1.3 16.895,-1.3 17.145,-1.05 17.395,-1.3 18.165,-1.3 18.415,-1.05 18.415,-0.773 ; -0.635,0.773 -0.635,1.05 -0.385,1.3 0.385,1.3 0.635,1.05 0.885,1.3 1.655,1.3 1.905,1.05 2.155,1.3 2.925,1.3 3.175,1.05 3.425,1.3 4.195,1.3 4.445,1.05 4.695,1.3 5.465,1.3 5.715,1.05 5.965,1.3 6.735,1.3 6.985,1.05 7.235,1.3 8.005,1.3 8.255,1.05 8.505,1.3 9.275,1.3 9.525,1.05 9.775,1.3 10.545,1.3 10.795,1.05 11.045,1.3 11.815,1.3 12.065,1.05 12.315,1.3 13.085,1.3 13.335,1.05 13.585,1.3 14.355,1.3 14.605,1.05 14.855,1.3 15.625,1.3 15.875,1.05 16.125,1.3 16.895,1.3 17.145,1.05 17.395,1.3 18.165,1.3 18.415,1.05 18.415,0.773
Mechanical 8:
  lines w0.1: -0.5,0 0,0 ; 0,-0.5 0,0 ; 0,0.5 0,0 ; 0.5,0 0,0 ; 0.77,0 1.27,0 ; 1.27,-0.5 1.27,0 ; 1.27,0.5 1.27,0 ; 1.77,0 1.27,0 ; 2.04,0 2.54,0 ; 2.54,-0.5 2.54,0 ; 2.54,0.5 2.54,0 ; 3.04,0 2.54,0 ; 3.31,0 3.81,0 ; 3.81,-0.5 3.81,0 ; 3.81,0.5 3.81,0 ; 4.31,0 3.81,0 ; 4.58,0 5.08,0 ; 5.08,-0.5 5.08,0 ; 5.08,0.5 5.08,0 ; 5.58,0 5.08,0 ; 5.85,0 6.35,0 ; 6.35,-0.5 6.35,0 ; 6.35,0.5 6.35,0 ; 6.85,0 6.35,0 ; 7.12,0 7.62,0 ; 7.62,-0.5 7.62,0 ; 7.62,0.5 7.62,0 ; 8.12,0 7.62,0 ; 8.39,0 8.89,0 ; 8.89,-0.5 8.89,0 ; 8.89,0.5 8.89,0 ; 9.39,0 8.89,0 ; 9.66,0 10.16,0 ; 10.16,-0.5 10.16,0 ; 10.16,0.5 10.16,0 ; 10.66,0 10.16,0 ; 10.93,0 11.43,0 ; 11.43,-0.5 11.43,0 ; 11.43,0.5 11.43,0 ; 11.93,0 11.43,0 ; 12.2,0 12.7,0 ; 12.7,-0.5 12.7,0 ; 12.7,0.5 12.7,0 ; 13.2,0 12.7,0 ; 13.47,0 13.97,0 ; 13.97,-0.5 13.97,0 ; 13.97,0.5 13.97,0 ; 14.47,0 13.97,0 ; 14.74,0 15.24,0 ; 15.24,-0.5 15.24,0 ; 15.24,0.5 15.24,0 ; 15.74,0 15.24,0 ; 16.01,0 16.51,0 ; 16.51,-0.5 16.51,0 ; 16.51,0.5 16.51,0 ; 17.01,0 16.51,0 ; 17.28,0 17.78,0 ; 17.78,-0.5 17.78,0 ; 17.78,0.5 17.78,0 ; 18.28,0 17.78,0
Mechanical 14:
  drawing of 153 lines, arcs and shapes, not listed
3D body "HARWIN_M52-5001545.stp": height 4.6, standoff -3, extent -0.635,-1.3 18.415,1.3

## HARWIN_M80-4101442 [mm] "14 Contacts - Pitch 2mm - Female Vertical PC Tail without Jackscrews"
height 5.2
pads (16):
  round 1.5 hole 0.8: 1(-6,1) 2(-6,-1) 3(-4,1) 4(-4,-1) 5(-2,1) 6(-2,-1) 7(0,1) 8(0,-1) 9(2,1) 10(2,-1) 11(4,1) 12(4,-1) 13(6,1) 14(6,-1)
  round 3.2 / inner round 4.5 / far side round 4.5 hole 2.3: MTG1(-9.5,0) MTG1(9.5,0)
Top Overlay:
  circle w0.3: c-6,3.6 r0.15
  lines w0.2: -11.2,-1.967 -11.2,-2.775 11.2,-2.775 11.2,-1.967 ; -11.2,1.967 -11.2,2.775 -6.15,2.775 -6.15,2.625 -5.85,2.625 -5.85,2.775 11.2,2.775 11.2,1.967 ; -7.27,-1.337 -7.27,-2.115 7.27,-2.115 7.27,-1.337 ; -7.27,1.337 -7.27,2.115 -0.75,2.115 -0.75,2.775 ; -1,2.115 -1,2.775 ; 0.75,2.775 0.75,2.115 7.27,2.115 7.27,1.337 ; 1,2.115 1,2.775
Mechanical 8:
  circle w0.05: c6,-1 r0.325
  circle w0.05: c6,1 r0.325
  circle w0.05: c4,-1 r0.325
  circle w0.05: c4,1 r0.325
  circle w0.05: c2,-1 r0.325
  circle w0.05: c2,1 r0.325
  circle w0.05: c0,-1 r0.325
  circle w0.05: c0,1 r0.325
  circle w0.05: c-2,-1 r0.325
  circle w0.05: c-2,1 r0.325
  circle w0.05: c-4,-1 r0.325
  circle w0.05: c-4,1 r0.325
  circle w0.05: c-6,-1 r0.325
  circle w0.05: c-6,1 r0.325
  circle w0.1: c9.5,0 r1.8
  circle w0.1: c-9.5,0 r1.8
  lines w0.05: -6.5,-1 -6,-1 ; -6.5,1 -6,1 ; -6,-1.5 -6,-1 ; -6,-0.5 -6,-1 ; -6,0.5 -6,1 ; -6,1.5 -6,1 ; -5.5,-1 -6,-1 ; -5.5,1 -6,1 ; -4.5,-1 -4,-1 ; -4.5,1 -4,1 ; -4,-1.5 -4,-1 ; -4,-0.5 -4,-1 ; -4,0.5 -4,1 ; -4,1.5 -4,1 ; -3.5,-1 -4,-1 ; -3.5,1 -4,1 ; -2.5,-1 -2,-1 ; -2.5,1 -2,1 ; -2,-1.5 -2,-1 ; -2,-0.5 -2,-1 ; -2,0.5 -2,1 ; -2,1.5 -2,1 ; -1.5,-1 -2,-1 ; -1.5,1 -2,1 ; -0.5,-1 0,-1 ; -0.5,0 0,0 ; -0.5,1 0,1 ; 0,-1.5 0,-1 ; 0,1.5 0,1 ; 0.5,-1 0,-1 ; 0.5,0 0,0 ; 0.5,1 0,1 ; 1.5,-1 2,-1 ; 1.5,1 2,1 ; 2,-1.5 2,-1 ; 2,-0.5 2,-1 ; 2,0.5 2,1 ; 2,1.5 2,1 ; 2.5,-1 2,-1 ; 2.5,1 2,1 ; 3.5,-1 4,-1 ; 3.5,1 4,1 ; 4,-1.5 4,-1 ; 4,-0.5 4,-1 ; 4,0.5 4,1 ; 4,1.5 4,1 ; 4.5,-1 4,-1 ; 4.5,1 4,1 ; 5.5,-1 6,-1 ; 5.5,1 6,1 ; 6,-1.5 6,-1 ; 6,-0.5 6,-1 ; 6,0.5 6,1 ; 6,1.5 6,1 ; 6.5,-1 6,-1 ; 6.5,1 6,1 ; 0,-1 0,-0.5 0,0 ; 0,0 0,0.5 0,1
  lines w0.1: -10,0 -9.5,0 ; -9.5,-0.5 -9.5,0 ; -9.5,0.5 -9.5,0 ; -9,0 -9.5,0 ; 9,0 9.5,0 ; 9.5,-0.5 9.5,0 ; 9.5,0.5 9.5,0 ; 10,0 9.5,0
Mechanical 14:
  circle w0.1: c6,-1 r0.75
  circle w0.1: c-9.5,0 r1.1
  circle w0.1: c9.5,0 r1.1
  circle w0.1: c6,1 r0.75
  circle w0.1: c4,-1 r0.75
  circle w0.1: c4,1 r0.75
  circle w0.1: c2,-1 r0.75
  circle w0.1: c2,1 r0.75
  circle w0.1: c0,-1 r0.75
  circle w0.1: c0,1 r0.75
  circle w0.1: c-2,-1 r0.75
  circle w0.1: c-2,1 r0.75
  circle w0.1: c-4,-1 r0.75
  circle w0.1: c-4,1 r0.75
  circle w0.1: c-6,-1 r0.75
  circle w0.1: c-6,1 r0.75
  lines w0.1: -1,2.115 -1,2.775 ; -0.75,2.775 -0.75,2.115 -7.27,2.115 -7.27,-2.115 7.27,-2.115 7.27,2.115 0.75,2.115 0.75,2.775 ; 1,2.115 1,2.775 ; -11.2,-2.775 -11.2,-1.833 cw(c-9.5,0) -11.2,1.833 -11.2,2.775 -6.15,2.775 -6.15,2.625 -5.85,2.625 -5.85,2.775 11.2,2.775 11.2,1.833 cw(c9.5,0) 11.2,-1.833 11.2,-2.775 -11.2,-2.775
3D body "HARWIN_M80-4101442.stp": height 5.2, standoff -2.95, extent -12,-2.775 12,2.775

## HARWIN_M80-5401442 [mm] "14 Contacts - Pitch 2mm - Male Horizontal PC Tail with Board Mount"
height 6.05
pads (16):
  round 1.5 hole 0.8: 1(-6,-1) 2(-6,1) 3(-4,-1) 4(-4,1) 5(-2,-1) 6(-2,1) 7(0,-1) 8(0,1) 9(2,-1) 10(2,1) 11(4,-1) 12(4,1) 13(6,-1) 14(6,1)
  rect 3.2x3.2 / inner round 4.5 / far side round 4.5 hole 2.3: MTG1(-9.5,0) MTG2(9.5,0)
Top Overlay:
  circle w0.3: c-6,-2.7 r0.15
  lines w0.2: -11.7,-1.5 -12,-1.5 -12,-7.1 12,-7.1 12,-1.5 11.6,-1.5 ; -11.2,-7.1 -11.2,-2 ; -7.4,-1.5 -6.98,-1.5 ; -1.05,-7.1 -1.05,-3.7 1.05,-3.7 1.05,-7.1 ; -1.05,-6.75 -0.154,-6.75 ; -0.25,-3.7 -0.25,-6.583 ; 0.154,-6.75 1.05,-6.75 ; 0.25,-3.7 0.25,-6.583 ; 5.85,-7.1 5.85,-2.09 ; 6.15,-7.1 6.15,-2.09 ; 6.98,-1.5 7.4,-1.5 ; 11.2,-7.1 11.2,-2 ; -0.25,-6.583 0.25,-6.583 ; -0.25,-6.583 -0.125,-6.8 0.125,-6.8 0.25,-6.583
Mechanical 8:
  lines w0.05: -10,0 -9.5,0 ; -9.5,-0.5 -9.5,0 ; -9.5,0.5 -9.5,0 ; -9,0 -9.5,0 ; -6.5,-1 -6,-1 ; -6.5,1 -6,1 ; -6,-1.5 -6,-1 ; -6,-0.5 -6,-1 ; -6,0.5 -6,1 ; -6,1.5 -6,1 ; -5.5,-1 -6,-1 ; -5.5,1 -6,1 ; -4.5,-1 -4,-1 ; -4.5,1 -4,1 ; -4,-1.5 -4,-1 ; -4,-0.5 -4,-1 ; -4,0.5 -4,1 ; -4,1.5 -4,1 ; -3.5,-1 -4,-1 ; -3.5,1 -4,1 ; -2.5,-1 -2,-1 ; -2.5,1 -2,1 ; -2,-1.5 -2,-1 ; -2,-0.5 -2,-1 ; -2,0.5 -2,1 ; -2,1.5 -2,1 ; -1.5,-1 -2,-1 ; -1.5,1 -2,1 ; -0.5,-1 0,-1 ; -0.5,0 0,0 ; -0.5,1 0,1 ; 0,-1.5 0,-1 ; 0,1.5 0,1 ; 0.5,-1 0,-1 ; 0.5,0 0,0 ; 0.5,1 0,1 ; 1.5,-1 2,-1 ; 1.5,1 2,1 ; 2,-1.5 2,-1 ; 2,-0.5 2,-1 ; 2,0.5 2,1 ; 2,1.5 2,1 ; 2.5,-1 2,-1 ; 2.5,1 2,1 ; 3.5,-1 4,-1 ; 3.5,1 4,1 ; 4,-1.5 4,-1 ; 4,-0.5 4,-1 ; 4,0.5 4,1 ; 4,1.5 4,1 ; 4.5,-1 4,-1 ; 4.5,1 4,1 ; 5.5,-1 6,-1 ; 5.5,1 6,1 ; 6,-1.5 6,-1 ; 6,-0.5 6,-1 ; 6,0.5 6,1 ; 6,1.5 6,1 ; 6.5,-1 6,-1 ; 6.5,1 6,1 ; 9,0 9.5,0 ; 9.5,-0.5 9.5,0 ; 9.5,0.5 9.5,0 ; 10,0 9.5,0 ; 0,-1 0,-0.5 0,0 ; 0,0 0,0.5 0,1
Mechanical 14:
  circle w0.1: c9.5,0 r1.006
  circle w0.1: c-9.5,0 r1.006
  circle w0.1: c9.5,0 r0.7
  circle w0.1: c-9.5,0 r0.7
  lines w0.1: -11.2,-7.1 -11.2,-1.5 ; -11,-1.5 -11,1.5 -8,1.5 -8,-1.5 ; -11,-1.323 cw(c-9.5,0) -11,1.323 ; -10.823,1.5 cw(c-9.5,0) -8.177,1.5 ; -8,1.323 cw(c-9.5,0) -7.992,-1.314 ; -6.248,-2 -6.248,0.9 ; -5.751,-2 -5.751,0.9 ; -4.249,-2 -4.249,0.9 ; -3.752,-2 -3.752,0.9 ; -2.248,-2 -2.248,0.9 ; -1.752,-2 -1.752,0.9 ; -1.05,-7.1 -1.05,-3.7 1.05,-3.7 1.05,-7.1 ; -1.05,-6.75 -0.154,-6.75 ; -0.25,-3.7 -0.25,-6.583 ; -0.249,-2 -0.249,0.9 ; 0.154,-6.75 1.05,-6.75 ; 0.249,-2 0.249,0.9 ; 0.25,-3.7 0.25,-6.583 ; 1.752,-2 1.752,0.9 ; 2.248,-2 2.248,0.9 ; 3.752,-2 3.752,0.9 ; 4.249,-2 4.249,0.9 ; 5.751,-2 5.751,0.9 cw(c6,0.9) 6.249,0.9 6.248,-2 ; 5.85,-7.1 5.85,-2 ; 6.15,-7.1 6.15,-2 ; 6.75,-1.5 6.75,-2 5.25,-2 5.25,-1.5 4.75,-1.5 4.75,-2 3.25,-2 3.25,-1.5 2.75,-1.5 2.75,-2 1.25,-2 1.25,-1.5 0.75,-1.5 0.75,-2 -0.75,-2 -0.75,-1.5 -1.25,-1.5 -1.25,-2 -2.75,-2 -2.75,-1.5 -3.25,-1.5 -3.25,-2 -4.75,-2 -4.75,-1.5 -5.25,-1.5 -5.25,-2 -6.75,-2 -6.75,-1.5 -12,-1.5 -12,-7.1 12,-7.1 12,-1.5 6.98,-1.5 ; 8,-1.5 8,1.5 11,1.5 11,-1.5 ; 8,-1.323 cw(c9.5,0) 8,1.323 ; 8.177,1.5 cw(c9.5,0) 10.823,1.5 ; 11,1.323 cw(c9.5,0) 11.008,-1.314 ; 11.2,-7.1 11.2,-1.5 ; -6.249,0.901 cw(c-6,0.9) -5.751,0.9 ; -6.249,0.901 cw(c-6,0.9) -5.751,0.9 ; -4.248,0.901 cw(c-4,0.9) -3.751,0.9 ; -4.248,0.901 cw(c-4,0.9) -3.751,0.9 ; -2.249,0.901 cw(c-2,0.9) -1.752,0.9 ; -2.249,0.901 cw(c-2,0.9) -1.752,0.9 ; -0.25,-6.583 0.25,-6.583 ; -0.25,-6.583 -0.125,-6.8 0.125,-6.8 0.25,-6.583 ; -0.248,0.901 cw(c0,0.9) 0.249,0.9 ; -0.248,0.901 cw(c0,0.9) 0.249,0.9 ; 1.752,0.901 cw(c2,0.9) 2.249,0.9 ; 1.752,0.901 cw(c2,0.9) 2.249,0.9 ; 3.751,0.901 cw(c4,0.9) 4.249,0.9 ; 3.751,0.901 cw(c4,0.9) 4.249,0.9
3D body "HARWIN_M80-5401442_Screws.stp": height 1.92, standoff -3.08, extent -11.5,-1.997 11.5,1.997
3D body "HARWIN_M80-5401442.stp": height 6.05, standoff -3.01, extent -12,-7.1 12,1.5

## HARWIN_M1353-98 [mm] "PC Board Test Jack for Ø2.03mm Probe"
height 5.16
pads (2):
  round 2.2 hole 1.5: 1(-5.08,0) 1(5.08,0)
Top Overlay:
  lines w0.2: -5.88,-1.269 -5.88,-2.105 5.88,-2.105 5.88,-1.269 ; -5.88,1.269 -5.88,2.105 5.88,2.105 5.88,1.269
Mechanical 8:
  lines w0.1: -5.58,0 -5.08,0 ; -5.08,-0.5 -5.08,0 ; -5.08,0.5 -5.08,0 ; -4.58,0 -5.08,0 ; -0.5,0 0,0 ; 0,-0.5 0,0 ; 0,0.5 0,0 ; 0.5,0 0,0 ; 4.58,0 5.08,0 ; 5.08,-0.5 5.08,0 ; 5.08,0.5 5.08,0 ; 5.58,0 5.08,0
Mechanical 14:
  lines w0.1: -5.88,-2.105 -5.88,2.105 5.88,2.105 5.88,-2.105 -5.88,-2.105
3D body "HARWIN_M1353-98.stp": height 5.16, standoff -2.79, extent -5.88,-2.105 5.88,2.105